# Altium footprint library WR-TBL_Pluggable Connector_5.00mm.PcbLib: 148 footprints (part 7 of 10)
Each footprint in its own frame and in the unit in brackets; x right, y up, seen from the top. Pads: shape width x height; smd on the part's side, far side on the other; paste and mask are expansions set on the pad; w line width, h text height; cw(c..) or ccw(c..) is an arc to the next point about the centre after c.
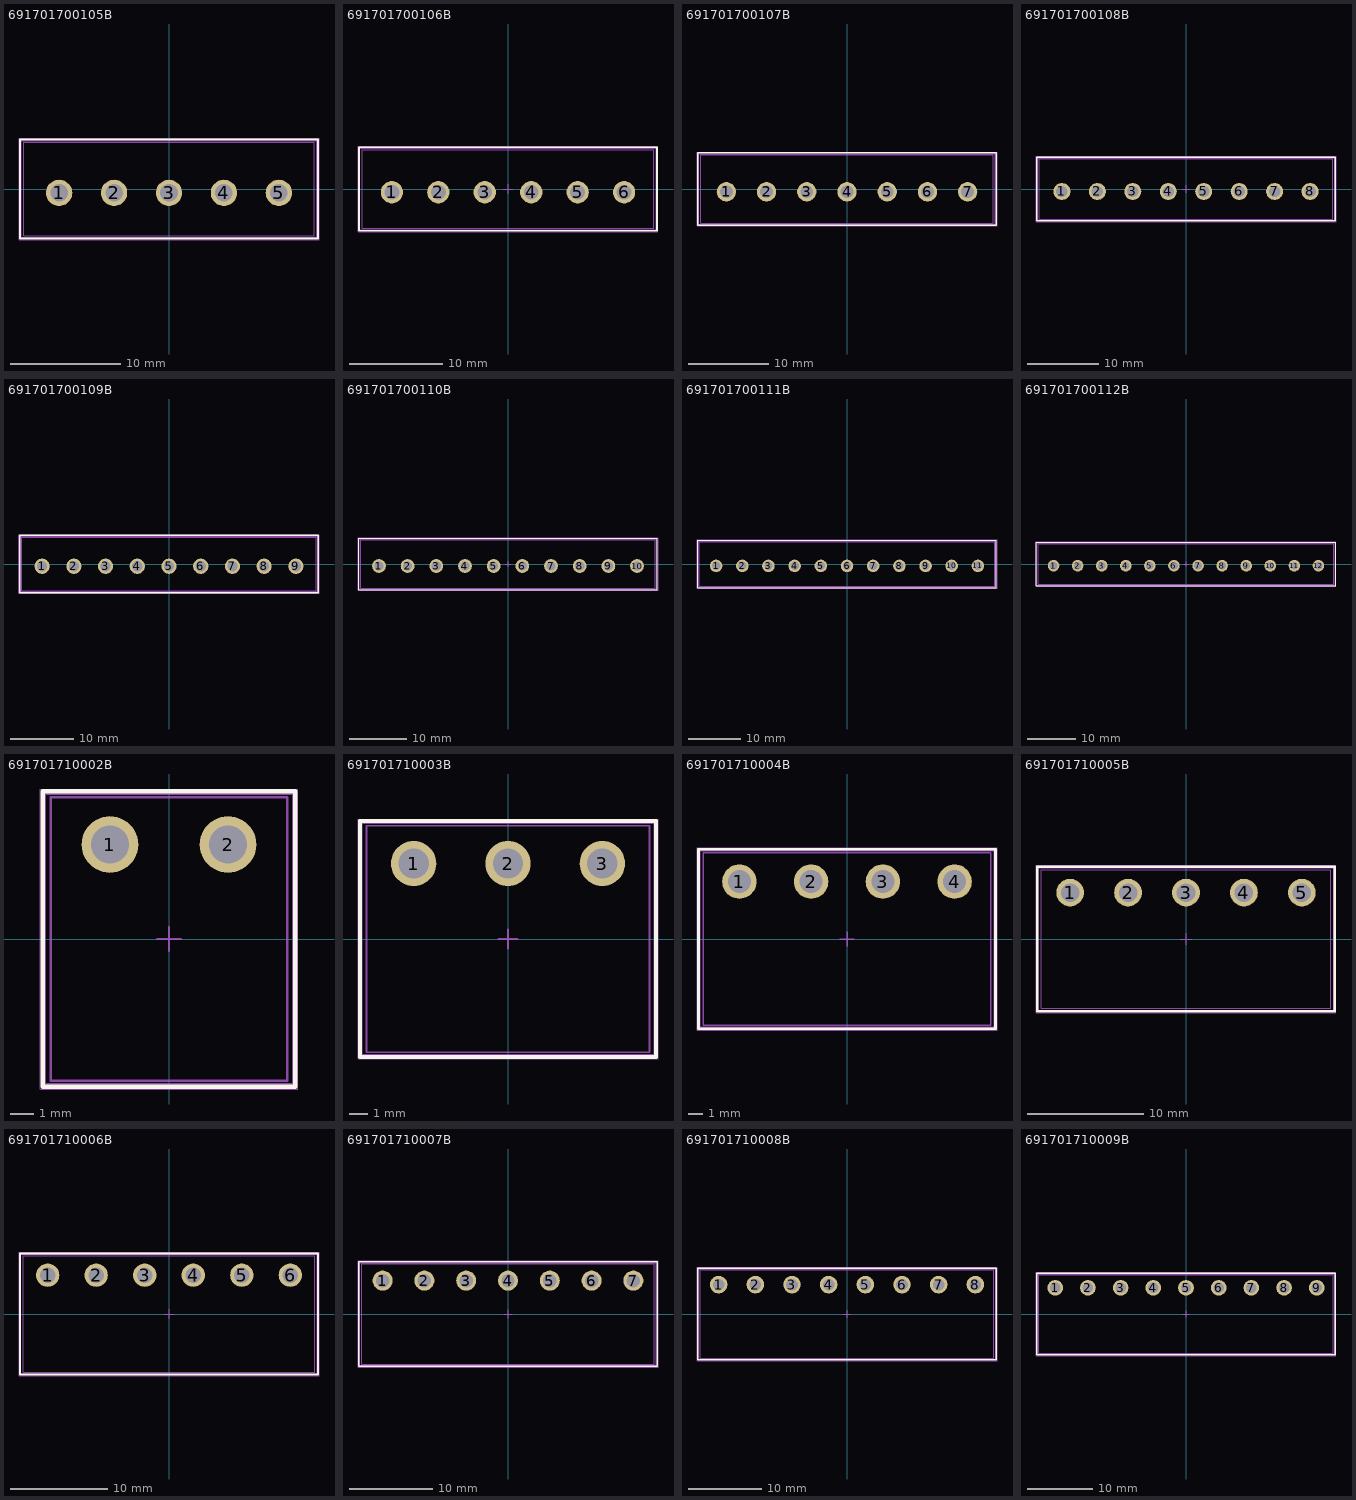
[diagram p6: the footprints below, top view; thin cyan lines are the x and y axes]

## 691701700105B [mm] "5.00 mm Closed Vertical PCB Header THR type, 05p"
height 12
pads (5):
  round 2.4 hole 1.6: 1(-10,-0.35) 2(-5,-0.35) 3(0,-0.35) 4(5,-0.35) 5(10,-0.35)
Top Overlay:
  lines w0.2: -13.55,-4.5 13.55,-4.5 13.55,4.5 -13.55,4.5 -13.55,-4.5
Top Paste:
  region: 8,1.5 12,1.5 12,-2.2 8,-2.2
  region: -2,1.5 2,1.5 2,-2.2 -2,-2.2
  region: -12,1.5 -8,1.5 -8,-2.2 -12,-2.2
  region: -7,1.5 -3,1.5 -3,-2.2 -7,-2.2
  region: 3,1.5 7,1.5 7,-2.2 3,-2.2
Assembly Notes:
  text "Stencil thickness : 120 μm" at -5.156,-5.301 h1
Top Assembly:
  lines w0.1: -13.45,-4.4 13.45,-4.4 13.45,4.4 -13.45,4.4 -13.45,-4.4
Top Designator:
  text ".Designator" at -3.647,-0.357 h1
Top 3D Body:
  lines w0.1: -13.2,-4.25 -13.2,4.25 13.2,4.25 13.2,-4.25 -13.2,-4.25
Top Courtyard:
  lines w0.05: -13.65,-4.6 -13.65,4.6 13.65,4.6 13.65,-4.6 -13.65,-4.6
Top Component Center:
  lines w0.1: -0.5,0 0.5,0 ; 0,-0.5 0,0.5
3D body "691701700105B.stp": height 12.05, standoff -2.55, extent -13.2,-4.25 13.2,4.25

## 691701700106B [mm] "5.00 mm Closed Vertical PCB Header THR type, 06p"
height 12
pads (6):
  round 2.4 hole 1.6: 1(-12.5,-0.35) 2(-7.5,-0.35) 3(-2.5,-0.35) 4(2.5,-0.35) 5(7.5,-0.35) 6(12.5,-0.35)
Top Overlay:
  lines w0.2: -16.05,-4.5 -16.05,4.5 16.05,4.5 16.05,-4.5 -16.05,-4.5
Top Paste:
  region: 0.5,1.5 4.5,1.5 4.5,-2.2 0.5,-2.2
  region: -9.5,1.5 -5.5,1.5 -5.5,-2.2 -9.5,-2.2
  region: -14.5,1.5 -10.5,1.5 -10.5,-2.2 -14.5,-2.2
  region: -4.5,1.5 -0.5,1.5 -0.5,-2.2 -4.5,-2.2
  region: 5.5,1.5 9.5,1.5 9.5,-2.2 5.5,-2.2
  region: 10.5,1.5 14.5,1.5 14.5,-2.2 10.5,-2.2
Assembly Notes:
  text "Stencil thickness : 120 μm" at -5.156,-5.301 h1
Top Assembly:
  lines w0.1: -15.95,-4.4 -15.95,4.4 15.95,4.4 15.95,-4.4 -15.95,-4.4
Top Designator:
  text ".Designator" at -3.647,-0.357 h1
Top 3D Body:
  lines w0.1: -15.7,-4.25 15.7,-4.25 15.7,4.25 -15.7,4.25 -15.7,-4.25
Top Courtyard:
  lines w0.05: -16.15,-4.6 16.15,-4.6 16.15,4.6 -16.15,4.6 -16.15,-4.6
Top Component Center:
  lines w0.1: -0.5,0 0.5,0 ; 0,-0.5 0,0.5
3D body "691701700106B.stp": height 12.05, standoff -2.55, extent -15.7,-4.25 15.7,4.25

## 691701700107B [mm] "5.00 mm Closed Vertical PCB Header THR type, 07p"
height 12
pads (7):
  round 2.4 hole 1.6: 1(-15,-0.35) 2(-10,-0.35) 3(-5,-0.35) 4(0,-0.35) 5(5,-0.35) 6(10,-0.35) 7(15,-0.35)
Top Overlay:
  lines w0.2: -18.55,-4.5 -18.55,4.5 18.55,4.5 18.55,-4.5 -18.55,-4.5
Top Paste:
  region: 8,1.5 12,1.5 12,-2.2 8,-2.2
  region: 3,1.5 7,1.5 7,-2.2 3,-2.2
  region: -7,1.5 -3,1.5 -3,-2.2 -7,-2.2
  region: -17,1.5 -13,1.5 -13,-2.2 -17,-2.2
  region: -12,1.5 -8,1.5 -8,-2.2 -12,-2.2
  region: -2,1.5 2,1.5 2,-2.2 -2,-2.2
  region: 13,1.5 17,1.5 17,-2.2 13,-2.2
Assembly Notes:
  text "Stencil thickness : 120 μm" at -5.156,-5.301 h1
Top Assembly:
  lines w0.1: -18.45,-4.4 -18.45,4.4 18.45,4.4 18.45,-4.4 -18.45,-4.4
Top Designator:
  text ".Designator" at -3.647,-0.357 h1
Top 3D Body:
  lines w0.1: -18.2,-4.25 18.2,-4.25 18.2,4.25 -18.2,4.25 -18.2,-4.25
Top Courtyard:
  lines w0.05: -18.65,-4.6 18.65,-4.6 18.65,4.6 -18.65,4.6 -18.65,-4.6
Top Component Center:
  lines w0.1: -0.5,0 0.5,0 ; 0,-0.5 0,0.5
3D body "691701700107B.stp": height 12.05, standoff -2.55, extent -18.2,-4.25 18.2,4.25

## 691701700108B [mm] "5.00 mm Closed Vertical PCB Header THR type, 08p"
height 12
pads (8):
  round 2.4 hole 1.6: 1(-17.5,-0.35) 2(-12.5,-0.35) 3(-7.5,-0.35) 4(-2.5,-0.35) 5(2.5,-0.35) 6(7.5,-0.35) 7(12.5,-0.35) 8(17.5,-0.35)
Top Overlay:
  lines w0.2: -21.05,-4.5 -21.05,4.5 21.05,4.5 21.05,-4.5 -21.05,-4.5
Top Paste:
  region: 15.5,1.5 19.5,1.5 19.5,-2.2 15.5,-2.2
  region: 10.5,1.5 14.5,1.5 14.5,-2.2 10.5,-2.2
  region: -4.5,1.5 -0.5,1.5 -0.5,-2.2 -4.5,-2.2
  region: -14.5,1.5 -10.5,1.5 -10.5,-2.2 -14.5,-2.2
  region: -19.5,1.5 -15.5,1.5 -15.5,-2.2 -19.5,-2.2
  region: -9.5,1.5 -5.5,1.5 -5.5,-2.2 -9.5,-2.2
  region: 0.5,1.5 4.5,1.5 4.5,-2.2 0.5,-2.2
  region: 5.5,1.5 9.5,1.5 9.5,-2.2 5.5,-2.2
Assembly Notes:
  text "Stencil thickness : 120 μm" at -5.156,-5.301 h1
Top Assembly:
  lines w0.1: -20.95,-4.4 -20.95,4.4 20.95,4.4 20.95,-4.4 -20.95,-4.4
Top Designator:
  text ".Designator" at -3.647,-0.357 h1
Top 3D Body:
  lines w0.1: -20.7,-4.25 20.7,-4.25 20.7,4.25 -20.7,4.25 -20.7,-4.25
Top Courtyard:
  lines w0.05: -21.15,-4.6 21.15,-4.6 21.15,4.6 -21.15,4.6 -21.15,-4.6
Top Component Center:
  lines w0.1: -0.5,0 0.5,0 ; 0,-0.5 0,0.5
3D body "691701700108B.stp": height 12.05, standoff -2.55, extent -20.7,-4.25 20.7,4.25

## 691701700109B [mm] "5.00 mm Closed Vertical PCB Header THR type, 09p"
height 12
pads (9):
  round 2.4 hole 1.6: 1(-20,-0.35) 2(-15,-0.35) 3(-10,-0.35) 4(-5,-0.35) 5(0,-0.35) 6(5,-0.35) 7(10,-0.35) 8(15,-0.35) 9(20,-0.35)
Top Overlay:
  lines w0.2: -23.55,-4.5 -23.55,4.5 23.55,4.5 23.55,-4.5 -23.55,-4.5
Top Paste:
  region: 18,1.5 22,1.5 22,-2.2 18,-2.2
  region: 13,1.5 17,1.5 17,-2.2 13,-2.2
  region: 8,1.5 12,1.5 12,-2.2 8,-2.2
  region: -7,1.5 -3,1.5 -3,-2.2 -7,-2.2
  region: -17,1.5 -13,1.5 -13,-2.2 -17,-2.2
  region: -22,1.5 -18,1.5 -18,-2.2 -22,-2.2
  region: -12,1.5 -8,1.5 -8,-2.2 -12,-2.2
  region: -2,1.5 2,1.5 2,-2.2 -2,-2.2
  region: 3,1.5 7,1.5 7,-2.2 3,-2.2
Assembly Notes:
  text "Stencil thickness : 120 μm" at -5.156,-5.301 h1
Top Assembly:
  lines w0.1: -23.45,-4.4 -23.45,4.4 23.45,4.4 23.45,-4.4 -23.45,-4.4
Top Designator:
  text ".Designator" at -3.647,-0.357 h1
Top 3D Body:
  lines w0.1: -23.2,-4.25 23.2,-4.25 23.2,4.25 -23.2,4.25 -23.2,-4.25
Top Courtyard:
  lines w0.05: -23.65,-4.6 23.65,-4.6 23.65,4.6 -23.65,4.6 -23.65,-4.6
Top Component Center:
  lines w0.1: -0.5,0 0.5,0 ; 0,-0.5 0,0.5
3D body "691701700109B.stp": height 12.05, standoff -2.55, extent -23.2,-4.25 23.2,4.25

## 691701700110B [mm] "5.00 mm Closed Vertical PCB Header THR type, 10p"
height 12
pads (10):
  round 2.4 hole 1.6: 1(-22.5,-0.35) 2(-17.5,-0.35) 3(-12.5,-0.35) 4(-7.5,-0.35) 5(-2.5,-0.35) 6(2.5,-0.35) 7(7.5,-0.35) 8(12.5,-0.35) 9(17.5,-0.35) 10(22.5,-0.35)
Top Overlay:
  lines w0.2: -26.05,-4.5 -26.05,4.5 26.05,4.5 26.05,-4.5 -26.05,-4.5
Top Paste:
  region: 20.5,1.5 24.5,1.5 24.5,-2.2 20.5,-2.2
  region: 15.5,1.5 19.5,1.5 19.5,-2.2 15.5,-2.2
  region: 10.5,1.5 14.5,1.5 14.5,-2.2 10.5,-2.2
  region: 5.5,1.5 9.5,1.5 9.5,-2.2 5.5,-2.2
  region: -9.5,1.5 -5.5,1.5 -5.5,-2.2 -9.5,-2.2
  region: -19.5,1.5 -15.5,1.5 -15.5,-2.2 -19.5,-2.2
  region: -24.5,1.5 -20.5,1.5 -20.5,-2.2 -24.5,-2.2
  region: -14.5,1.5 -10.5,1.5 -10.5,-2.2 -14.5,-2.2
  region: -4.5,1.5 -0.5,1.5 -0.5,-2.2 -4.5,-2.2
  region: 0.5,1.5 4.5,1.5 4.5,-2.2 0.5,-2.2
Assembly Notes:
  text "Stencil thickness : 120 μm" at -5.156,-5.301 h1
Top Assembly:
  lines w0.1: -25.95,-4.4 -25.95,4.4 25.95,4.4 25.95,-4.4 -25.95,-4.4
Top Designator:
  text ".Designator" at -3.647,-0.357 h1
Top 3D Body:
  lines w0.1: -25.7,-4.25 25.7,-4.25 25.7,4.25 -25.7,4.25 -25.7,-4.25
Top Courtyard:
  lines w0.05: -26.15,-4.6 26.15,-4.6 26.15,4.6 -26.15,4.6 -26.15,-4.6
Top Component Center:
  lines w0.1: -0.5,0 0.5,0 ; 0,-0.5 0,0.5
3D body "691701700110B.stp": height 12.05, standoff -2.55, extent -25.7,-4.25 25.7,4.25

## 691701700111B [mm] "5.00 mm Closed Vertical PCB Header THR type, 11p"
height 12
pads (11):
  round 2.4 hole 1.6: 1(-25,-0.35) 2(-20,-0.35) 3(-15,-0.35) 4(-10,-0.35) 5(-5,-0.35) 6(0,-0.35) 7(5,-0.35) 8(10,-0.35) 9(15,-0.35) 10(20,-0.35) 11(25,-0.35)
Top Overlay:
  lines w0.2: -28.55,-4.5 -28.55,4.5 28.55,4.5 28.55,-4.5 -28.55,-4.5
Top Paste:
  region: -2,1.5 2,1.5 2,-2.2 -2,-2.2
  region: -7,1.5 -3,1.5 -3,-2.2 -7,-2.2
  region: -17,1.5 -13,1.5 -13,-2.2 -17,-2.2
  region: -27,1.5 -23,1.5 -23,-2.2 -27,-2.2
  region: -22,1.5 -18,1.5 -18,-2.2 -22,-2.2
  region: -12,1.5 -8,1.5 -8,-2.2 -12,-2.2
  region: 3,1.5 7,1.5 7,-2.2 3,-2.2
  region: 8,1.5 12,1.5 12,-2.2 8,-2.2
  region: 13,1.5 17,1.5 17,-2.2 13,-2.2
  region: 18,1.5 22,1.5 22,-2.2 18,-2.2
  region: 23,1.5 27,1.5 27,-2.2 23,-2.2
Assembly Notes:
  text "Stencil thickness : 120 μm" at -5.156,-5.301 h1
Top Assembly:
  lines w0.1: -28.45,-4.4 -28.45,4.4 28.45,4.4 28.45,-4.4 -28.45,-4.4
Top Designator:
  text ".Designator" at -3.647,-0.357 h1
Top 3D Body:
  lines w0.1: -28.2,-4.25 28.2,-4.25 28.2,4.25 -28.2,4.25 -28.2,-4.25
Top Courtyard:
  lines w0.05: -28.65,-4.6 28.65,-4.6 28.65,4.6 -28.65,4.6 -28.65,-4.6
Top Component Center:
  lines w0.1: -0.5,0 0.5,0 ; 0,-0.5 0,0.5
3D body "691701700111B.stp": height 12.05, standoff -2.55, extent -28.2,-4.25 28.2,4.25

## 691701700112B [mm] "5.00 mm Closed Vertical PCB Header THR type, 12p"
height 12
pads (12):
  round 2.4 hole 1.6: 1(-27.5,-0.35) 2(-22.5,-0.35) 3(-17.5,-0.35) 4(-12.5,-0.35) 5(-7.5,-0.35) 6(-2.5,-0.35) 7(2.5,-0.35) 8(7.5,-0.35) 9(12.5,-0.35) 10(17.5,-0.35) 11(22.5,-0.35) 12(27.5,-0.35)
Top Overlay:
  lines w0.2: -31.05,-4.5 31.05,-4.5 31.05,4.5 -31.05,4.5 -31.05,-4.5
Top Paste:
  region: 25.5,1.5 29.5,1.5 29.5,-2.2 25.5,-2.2
  region: 20.5,1.5 24.5,1.5 24.5,-2.2 20.5,-2.2
  region: 15.5,1.5 19.5,1.5 19.5,-2.2 15.5,-2.2
  region: 10.5,1.5 14.5,1.5 14.5,-2.2 10.5,-2.2
  region: 5.5,1.5 9.5,1.5 9.5,-2.2 5.5,-2.2
  region: 0.5,1.5 4.5,1.5 4.5,-2.2 0.5,-2.2
  region: -14.5,1.5 -10.5,1.5 -10.5,-2.2 -14.5,-2.2
  region: -24.5,1.5 -20.5,1.5 -20.5,-2.2 -24.5,-2.2
  region: -29.5,1.5 -25.5,1.5 -25.5,-2.2 -29.5,-2.2
  region: -19.5,1.5 -15.5,1.5 -15.5,-2.2 -19.5,-2.2
  region: -9.5,1.5 -5.5,1.5 -5.5,-2.2 -9.5,-2.2
  region: -4.5,1.5 -0.5,1.5 -0.5,-2.2 -4.5,-2.2
Assembly Notes:
  text "Stencil thickness : 120 μm" at -5.156,-5.301 h1
Top Assembly:
  lines w0.1: -30.95,-4.4 30.95,-4.4 30.95,4.4 -30.95,4.4 -30.95,-4.4
Top Designator:
  text ".Designator" at -3.647,-0.357 h1
Top 3D Body:
  lines w0.1: -30.7,-4.25 -30.7,4.25 30.7,4.25 30.7,-4.25 -30.7,-4.25
Top Courtyard:
  lines w0.05: -31.15,-4.6 -31.15,4.6 31.15,4.6 31.15,-4.6 -31.15,-4.6
Top Component Center:
  lines w0.1: -0.5,0 0.5,0 ; 0,-0.5 0,0.5
3D body "691701700112B.stp": height 12.05, standoff -2.55, extent -30.7,-4.25 30.7,4.25

## 691701710002B [mm] "5.00 mm Open Horizontal PCB Header THR type, 02p"
height 8.5
pads (2):
  round 2.4 hole 1.6: 1(-2.5,4) 2(2.5,4)
Top Overlay:
  lines w0.2: -5.35,-6.25 5.35,-6.25 5.35,6.25 -5.35,6.25 -5.35,-6.25
Top Paste:
  region: -4.5,5.85 -0.5,5.85 -0.5,2.15 -4.5,2.15
  region: 0.5,5.85 4.5,5.85 4.5,2.15 0.5,2.15
Assembly Notes:
  text "Stencil thickness : 120 μm" at -5.156,-7.051 h1
Top Assembly:
  lines w0.1: -5.25,-6.15 5.25,-6.15 5.25,6.15 -5.25,6.15 -5.25,-6.15
Top Designator:
  text ".Designator" at -3.647,-0.357 h1
Top 3D Body:
  lines w0.1: -5,-6 5,-6 5,6 -5,6 -5,-6
Top Courtyard:
  lines w0.05: -5.45,-6.35 5.45,-6.35 5.45,6.35 -5.45,6.35 -5.45,-6.35
Top Component Center:
  lines w0.1: -0.5,0 0.5,0 ; 0,-0.5 0,0.5
3D body "691701710002B.stp": height 8.55, standoff -2.55, extent -5.08,-6 5.08,6

## 691701710003B [mm] "5.00 mm Open Horizontal PCB Header THR type, 03p"
height 8.5
pads (3):
  round 2.4 hole 1.6: 1(-5,4) 2(0,4) 3(5,4)
Top Overlay:
  lines w0.2: -7.85,-6.25 7.85,-6.25 7.85,6.25 -7.85,6.25 -7.85,-6.25
Top Paste:
  region: -7,5.85 -3,5.85 -3,2.15 -7,2.15
  region: -2,5.85 2,5.85 2,2.15 -2,2.15
  region: 3,5.85 7,5.85 7,2.15 3,2.15
Assembly Notes:
  text "Stencil thickness : 120 μm" at -5.156,-7.051 h1
Top Assembly:
  lines w0.1: -7.75,-6.15 7.75,-6.15 7.75,6.15 -7.75,6.15 -7.75,-6.15
Top Designator:
  text ".Designator" at -3.647,-0.357 h1
Top 3D Body:
  lines w0.1: -7.5,-6 7.5,-6 7.5,6 -7.5,6 -7.5,-6
Top Courtyard:
  lines w0.05: -7.95,-6.35 7.95,-6.35 7.95,6.35 -7.95,6.35 -7.95,-6.35
Top Component Center:
  lines w0.1: -0.5,0 0.5,0 ; 0,-0.5 0,0.5
3D body "691701710003B.stp": height 8.55, standoff -2.55, extent -7.5,-6 7.5,6

## 691701710004B [mm] "5.00 mm Open Horizontal PCB Header THR type, 04p"
height 8.5
pads (4):
  round 2.4 hole 1.6: 1(-7.5,4) 2(-2.5,4) 3(2.5,4) 4(7.5,4)
Top Overlay:
  lines w0.2: -10.35,-6.25 -10.35,6.25 10.35,6.25 10.35,-6.25 -10.35,-6.25
Top Paste:
  region: -9.5,5.85 -5.5,5.85 -5.5,2.15 -9.5,2.15
  region: -4.5,5.85 -0.5,5.85 -0.5,2.15 -4.5,2.15
  region: 0.5,5.85 4.5,5.85 4.5,2.15 0.5,2.15
  region: 5.5,5.85 9.5,5.85 9.5,2.15 5.5,2.15
Assembly Notes:
  text "Stencil thickness : 120 μm" at -5.156,-7.051 h1
Top Assembly:
  lines w0.1: -10.25,-6.15 -10.25,6.15 10.25,6.15 10.25,-6.15 -10.25,-6.15
Top Designator:
  text ".Designator" at -3.647,-0.357 h1
Top 3D Body:
  lines w0.1: -10,-6 -10,6 10,6 10,-6 -10,-6
Top Courtyard:
  lines w0.05: -10.45,-6.35 -10.45,6.35 10.45,6.35 10.45,-6.35 -10.45,-6.35
Top Component Center:
  lines w0.1: -0.5,0 0.5,0 ; 0,-0.5 0,0.5
3D body "691701710004B.stp": height 8.55, standoff -2.55, extent -10,-6 10,6

## 691701710005B [mm] "5.00 mm Open Horizontal PCB Header THR type, 05p"
height 8.5
pads (5):
  round 2.4 hole 1.6: 1(-10,4) 2(-5,4) 3(0,4) 4(5,4) 5(10,4)
Top Overlay:
  lines w0.2: -12.85,-6.25 -12.85,6.25 12.85,6.25 12.85,-6.25 -12.85,-6.25
Top Paste:
  region: 3,5.85 7,5.85 7,2.15 3,2.15
  region: -2,5.85 2,5.85 2,2.15 -2,2.15
  region: -7,5.85 -3,5.85 -3,2.15 -7,2.15
  region: -12,5.85 -8,5.85 -8,2.15 -12,2.15
  region: 8,5.85 12,5.85 12,2.15 8,2.15
Assembly Notes:
  text "Stencil thickness : 120 μm" at -5.156,-7.051 h1
Top Assembly:
  lines w0.1: -12.75,-6.15 -12.75,6.15 12.75,6.15 12.75,-6.15 -12.75,-6.15
Top Designator:
  text ".Designator" at -3.647,-0.357 h1
Top 3D Body:
  lines w0.1: -12.5,-6 -12.5,6 12.5,6 12.5,-6 -12.5,-6
Top Courtyard:
  lines w0.05: -12.95,-6.35 -12.95,6.35 12.95,6.35 12.95,-6.35 -12.95,-6.35
Top Component Center:
  lines w0.1: -0.5,0 0.5,0 ; 0,-0.5 0,0.5
3D body "691701710005B.stp": height 8.55, standoff -2.55, extent -12.5,-6 12.5,6

## 691701710006B [mm] "5.00 mm Open Horizontal PCB Header THR type, 06p"
height 8.5
pads (6):
  round 2.4 hole 1.6: 1(-12.5,4) 2(-7.5,4) 3(-2.5,4) 4(2.5,4) 5(7.5,4) 6(12.5,4)
Top Overlay:
  lines w0.2: -15.35,-6.25 15.35,-6.25 15.35,6.25 -15.35,6.25 -15.35,-6.25
Top Paste:
  region: 10.5,5.85 14.5,5.85 14.5,2.15 10.5,2.15
  region: 0.5,5.85 4.5,5.85 4.5,2.15 0.5,2.15
  region: -4.5,5.85 -0.5,5.85 -0.5,2.15 -4.5,2.15
  region: -9.5,5.85 -5.5,5.85 -5.5,2.15 -9.5,2.15
  region: -14.5,5.85 -10.5,5.85 -10.5,2.15 -14.5,2.15
  region: 5.5,5.85 9.5,5.85 9.5,2.15 5.5,2.15
Assembly Notes:
  text "Stencil thickness : 120 μm" at -5.156,-7.051 h1
Top Assembly:
  lines w0.1: -15.25,-6.15 15.25,-6.15 15.25,6.15 -15.25,6.15 -15.25,-6.15
Top Designator:
  text ".Designator" at -3.647,-0.357 h1
Top 3D Body:
  lines w0.1: -15,-6 15,-6 15,6 -15,6 -15,-6
Top Courtyard:
  lines w0.05: -15.45,-6.35 15.45,-6.35 15.45,6.35 -15.45,6.35 -15.45,-6.35
Top Component Center:
  lines w0.1: -0.5,0 0.5,0 ; 0,-0.5 0,0.5
3D body "691701710006B.stp": height 8.55, standoff -2.55, extent -15,-6 15,6

## 691701710007B [mm] "5.00 mm Open Horizontal PCB Header THR type, 07p"
height 8.5
pads (7):
  round 2.4 hole 1.6: 1(-15,4) 2(-10,4) 3(-5,4) 4(0,4) 5(5,4) 6(10,4) 7(15,4)
Top Overlay:
  lines w0.2: -17.85,-6.25 17.85,-6.25 17.85,6.25 -17.85,6.25 -17.85,-6.25
Top Paste:
  region: 13,5.85 17,5.85 17,2.15 13,2.15
  region: 3,5.85 7,5.85 7,2.15 3,2.15
  region: -17,5.85 -13,5.85 -13,2.15 -17,2.15
  region: -12,5.85 -8,5.85 -8,2.15 -12,2.15
  region: -7,5.85 -3,5.85 -3,2.15 -7,2.15
  region: -2,5.85 2,5.85 2,2.15 -2,2.15
  region: 8,5.85 12,5.85 12,2.15 8,2.15
Assembly Notes:
  text "Stencil thickness : 120 μm" at -5.156,-7.051 h1
Top Assembly:
  lines w0.1: -17.75,-6.15 -17.75,6.15 17.75,6.15 17.75,-6.15 -17.75,-6.15
Top Designator:
  text ".Designator" at -3.647,-0.357 h1
Top 3D Body:
  lines w0.1: -17.5,-6 -17.5,6 17.5,6 17.5,-6 -17.5,-6
Top Courtyard:
  lines w0.05: -17.95,-6.35 -17.95,6.35 17.95,6.35 17.95,-6.35 -17.95,-6.35
Top Component Center:
  lines w0.1: -0.5,0 0.5,0 ; 0,-0.5 0,0.5
3D body "691701710007B.stp": height 8.55, standoff -2.55, extent -17.5,-6 17.5,6

## 691701710008B [mm] "5.00 mm Open Horizontal PCB Header THR type, 08p"
height 8.5
pads (8):
  round 2.4 hole 1.6: 1(-17.5,4) 2(-12.5,4) 3(-7.5,4) 4(-2.5,4) 5(2.5,4) 6(7.5,4) 7(12.5,4) 8(17.5,4)
Top Overlay:
  lines w0.2: -20.35,-6.25 -20.35,6.25 20.35,6.25 20.35,-6.25 -20.35,-6.25
Top Paste:
  region: 15.5,5.85 19.5,5.85 19.5,2.15 15.5,2.15
  region: 10.5,5.85 14.5,5.85 14.5,2.15 10.5,2.15
  region: 0.5,5.85 4.5,5.85 4.5,2.15 0.5,2.15
  region: -19.5,5.85 -15.5,5.85 -15.5,2.15 -19.5,2.15
  region: -14.5,5.85 -10.5,5.85 -10.5,2.15 -14.5,2.15
  region: -9.5,5.85 -5.5,5.85 -5.5,2.15 -9.5,2.15
  region: -4.5,5.85 -0.5,5.85 -0.5,2.15 -4.5,2.15
  region: 5.5,5.85 9.5,5.85 9.5,2.15 5.5,2.15
Assembly Notes:
  text "Stencil thickness : 120 μm" at -5.156,-7.051 h1
Top Assembly:
  lines w0.1: -20.25,-6.15 20.25,-6.15 20.25,6.15 -20.25,6.15 -20.25,-6.15
Top Designator:
  text ".Designator" at -3.647,-0.357 h1
Top 3D Body:
  lines w0.1: -20,-6 20,-6 20,6 -20,6 -20,-6
Top Courtyard:
  lines w0.05: -20.45,-6.35 20.45,-6.35 20.45,6.35 -20.45,6.35 -20.45,-6.35
Top Component Center:
  lines w0.1: -0.5,0 0.5,0 ; 0,-0.5 0,0.5
3D body "691701710008B.stp": height 8.55, standoff -2.55, extent -20,-6 20,6

## 691701710009B [mm] "5.00 mm Open Horizontal PCB Header THR type, 09p"
height 8.5
pads (9):
  round 2.4 hole 1.6: 1(-20,4) 2(-15,4) 3(-10,4) 4(-5,4) 5(0,4) 6(5,4) 7(10,4) 8(15,4) 9(20,4)
Top Overlay:
  lines w0.2: -22.85,-6.25 22.85,-6.25 22.85,6.25 -22.85,6.25 -22.85,-6.25
Top Paste:
  region: 18,5.85 22,5.85 22,2.15 18,2.15
  region: 3,5.85 7,5.85 7,2.15 3,2.15
  region: -7,5.85 -3,5.85 -3,2.15 -7,2.15
  region: -12,5.85 -8,5.85 -8,2.15 -12,2.15
  region: -17,5.85 -13,5.85 -13,2.15 -17,2.15
  region: -22,5.85 -18,5.85 -18,2.15 -22,2.15
  region: -2,5.85 2,5.85 2,2.15 -2,2.15
  region: 8,5.85 12,5.85 12,2.15 8,2.15
  region: 13,5.85 17,5.85 17,2.15 13,2.15
Assembly Notes:
  text "Stencil thickness : 120 μm" at -5.156,-7.051 h1
Top Assembly:
  lines w0.1: -22.75,-6.15 -22.75,6.15 22.75,6.15 22.75,-6.15 -22.75,-6.15
Top Designator:
  text ".Designator" at -3.647,-0.357 h1
Top 3D Body:
  lines w0.1: -22.5,-6 -22.5,6 22.5,6 22.5,-6 -22.5,-6
Top Courtyard:
  lines w0.05: -22.95,-6.35 -22.95,6.35 22.95,6.35 22.95,-6.35 -22.95,-6.35
Top Component Center:
  lines w0.1: -0.5,0 0.5,0 ; 0,-0.5 0,0.5
3D body "691701710009B.stp": height 8.55, standoff -2.55, extent -22.5,-6 22.5,6